# EAGLE library part WIICAMERA (library NaugtyBall)
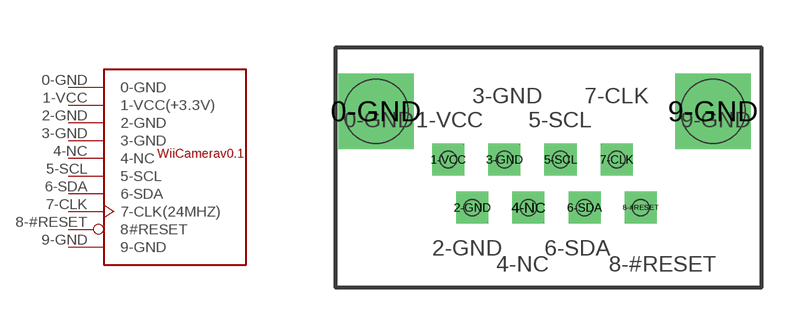
[diagram p0: symbol with the pads of WIICAMERA; footprint WIICAMERA]

Designator prefix WII

## WIICAMERA  [WIICAMERA]
0-GND  0-GND  pwr
1-VCC  1-VCC(+3.3V)  pwr
2-GND  2-GND  pwr
3-GND  3-GND  pwr
4-NC  4-NC  nc
5-SCL  5-SCL
6-SDA  6-SDA
7-CLK  7-CLK(24MHZ)  oc
8-#RESET  8#RESET  in
9-GND  9-GND  pwr

## Footprint WIICAMERA (pad centres in mm)
WiiCamera
drill 1.6 square: 0-GND 1.27,5.588; 9-GND 11.938,5.588
drill 0.508 square: 1-VCC 3.556,4.064; 2-GND 4.318,2.54; 3-GND 5.334,4.064; 4-NC 6.096,2.54; 5-SCL 7.112,4.064; 6-SDA 7.874,2.54; 7-CLK 8.89,4.064; 8-#RESET 9.652,2.54
hole 2.032 at 1.27,5.588
hole 2.032 at 11.938,5.588
hole 0.508 at 3.556,4.064
hole 0.508 at 5.334,4.064
hole 0.508 at 7.112,4.064
hole 0.508 at 8.89,4.064
hole 0.508 at 4.318,2.54
hole 0.508 at 6.096,2.54
hole 0.508 at 7.874,2.54
hole 0.508 at 9.652,2.54